# EAGLE library part CON_JTAG (library isysbus_mechanical)
Connector: JTAG Order numbers: - Reichelt: WSL 10G - CSD-Electronics: 01550
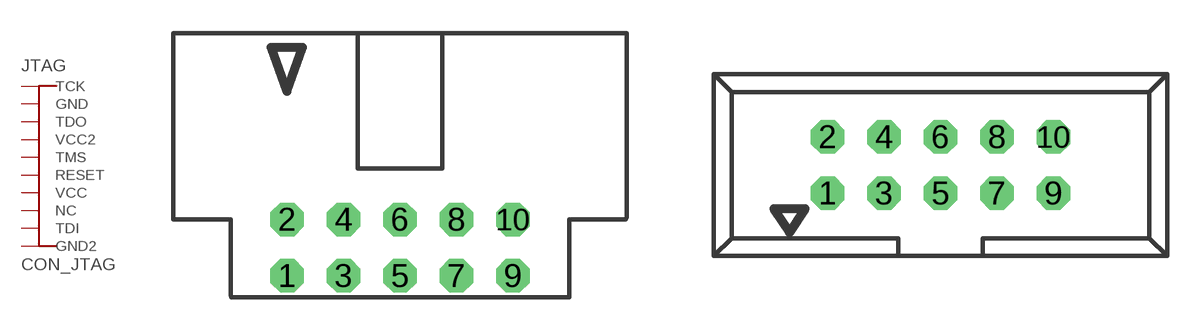
[diagram p3: symbol with the pads of 057-010-0; footprints 057-010-0, 057-010-1]

Designator prefix JTAG

## CON_JTAG0  [057-010-0]
1  TCK
2  GND
3  TDO
4  VCC2
5  TMS
6  RESET
7  VCC
8  NC
9  TDI
10  GND2

## CON_JTAG1  [057-010-1]
Pads as for 057-010-0

## Footprint 057-010-0 (pad centres in mm)
CONNECTOR series 057 contact pc board low profile headers angled
drill 1 octagon: 1 -5.08,-5.08; 2 -5.08,-2.54; 3 -2.54,-5.08; 4 -2.54,-2.54; 5 0,-5.08; 6 0,-2.54; 7 2.54,-5.08; 8 2.54,-2.54; 9 5.08,-5.08; 10 5.08,-2.54

## Footprint 057-010-1 (pad centres in mm)
CONNECTOR series 057 contact pc board low profile headers straight
drill 1 octagon: 1 -5.08,-1.27; 2 -5.08,1.27; 3 -2.54,-1.27; 4 -2.54,1.27; 5 0,-1.27; 6 0,1.27; 7 2.54,-1.27; 8 2.54,1.27; 9 5.08,-1.27; 10 5.08,1.27